# EAGLE library part PCF2123 (library nxp-jlb)
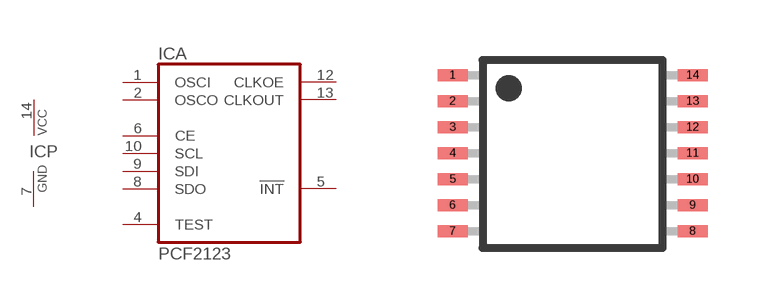
[diagram p1: symbol with the pads of TSSOP14; footprint TSSOP14]

Designator prefix IC; gates A=RTC P=PWRN

## PCF2123  [TSSOP14]
1  A:OSCI  in
2  A:OSCO  out
4  A:TEST  out
5  A:!INT  out
6  A:CE  in
7  P:GND  pwr
8  A:SDO  out
9  A:SDI  in
10  A:SCL  in
12  A:CLKOE  in
13  A:CLKOUT  out
14  P:VCC  pwr

## Footprint TSSOP14 (pad centres in mm)
smd 0.75 x 0.3: 1 -3,1.972; 2 -3,1.323; 3 -3,0.672; 4 -3,0.022; 5 -3,-0.627; 6 -3,-1.278; 7 -3,-1.927; 8 3,-1.927; 9 3,-1.278; 10 3,-0.627; 11 3,0.022; 12 3,0.672; 13 3,1.323; 14 3,1.972